# Altium footprint library IPEX.PcbLib: 1 footprints
Each footprint in its own frame and in the unit in brackets; x right, y up, seen from the top. Pads: shape width x height; smd on the part's side, far side on the other; paste and mask are expansions set on the pad; w line width, h text height; cw(c..) or ccw(c..) is an arc to the next point about the centre after c.
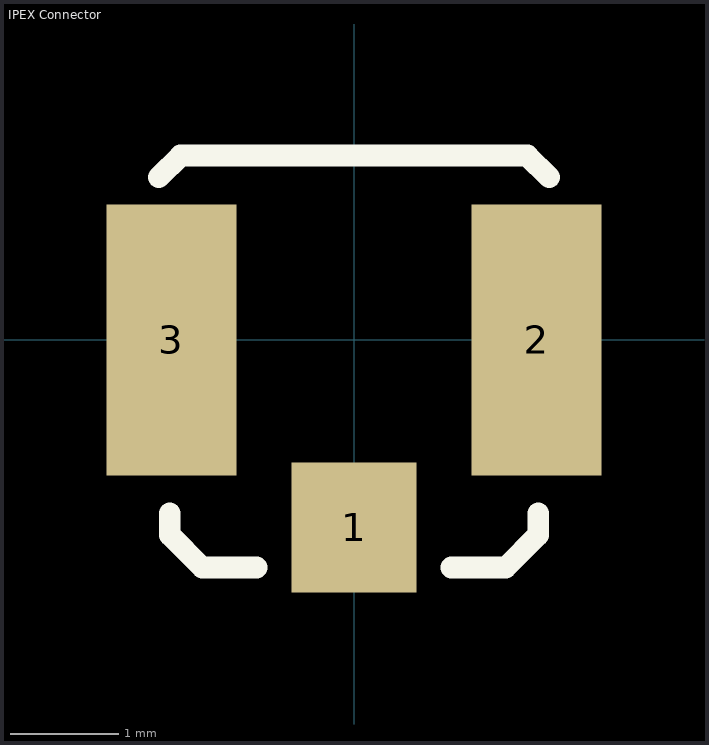
[diagram p0: the footprint, top view; thin cyan lines are the x and y axes]

## IPEX Connector [mm] "U.FL (UMCC), IPEX MHF1 Connector Receptacle, Male Pin 50Ohm Surface Mount Solder"
pads (3):
  rect 1.15x1.2 smd: 1(0,-1.73)
  rect 1.2x2.5 smd: 2(1.685,0) 3(-1.685,0)
Top Overlay:
  lines w0.2: -1.8,1.5 -1.6,1.7 1.4,1.7 1.6,1.7 1.8,1.5 ; -1.7,-1.6 -1.7,-1.8 -1.4,-2.1 -0.9,-2.1 ; 0.9,-2.1 1.4,-2.1 1.7,-1.8 1.7,-1.6
3D body "IPEX.step": height 1.25, standoff -0.01, extent -1.5,-1.57 1.5,1.53